# Altium footprint library CT31496.PcbLib: 1 footprints
Each footprint in its own frame and in the unit in brackets; x right, y up, seen from the top. Pads: shape width x height; smd on the part's side, far side on the other; paste and mask are expansions set on the pad; w line width, h text height; cw(c..) or ccw(c..) is an arc to the next point about the centre after c.
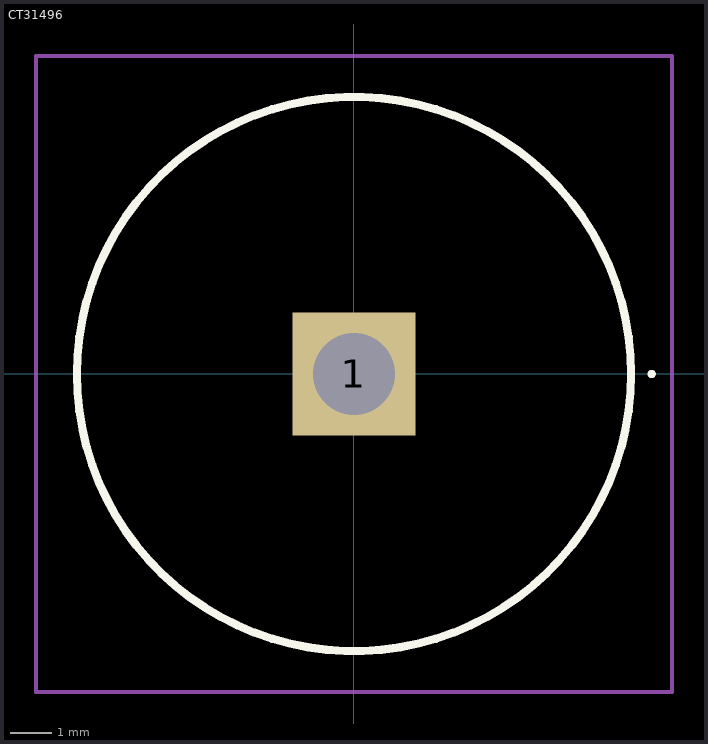
[diagram p0: the footprint, top view; thin cyan lines are the x and y axes]

## CT31496 [mm]
pads (1):
  rect 3x3 hole 2: 1(0,0)
Top Overlay:
  lines w0.1: 7.2,0 7.2,0 ; 7.2,0 ccw(c7.25,0) 7.3,0 ; 7.2,0 cw(c7.25,0) 7.3,0 ; 7.3,0 7.3,0
  lines w0.2: -6.75,0 -6.75,0 ; -6.75,0 ccw(c0,0) 6.75,0 ; -6.75,0 cw(c0,0) 6.75,0 ; 6.75,0 6.75,0
Mechanical 15:
  lines w0.1: -6.75,0 -6.75,0 ; -6.75,0 ccw(c0,0) 6.75,0 ; -6.75,0 cw(c0,0) 6.75,0 ; 6.75,0 6.75,0
Mechanical 20:
  lines w0.1: -7.75,-7.75 7.75,-7.75 7.75,7.75 -7.75,7.75 -7.75,-7.75